# Altium schematic symbol library 08055A500FAT2A.SchLib: 1 symbol
Pins are listed as number, name and electrical type; pins without a type are passive.

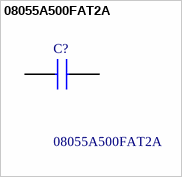
[diagram p0: symbol 08055A500FAT2A]

## 08055A500FAT2A
designator C?
50 pF +/-1% 50V Ceramic Capacitor C0G, NP0 0805 (2012 Metric); Manufacturer_Name: Kyocera AVX; Geometry.Height: 1.4mm; Manufacturer_Part_Number: 08055A500FAT2A; Mouser Part Number: 581-08055A500FAT2A; Mouser Price/Stock: https://www.mouser.co.uk/ProductDetail/KYOCERA-AVX/08055A500FAT2A?qs=ykEKLGTiBczMLr9%2FFQxHGw%3D%3D; Arrow Part Number: 08055A500FAT2A; Arrow Price/Stock: null?region=nac; Datasheet Link: https://datasheets.kyocera-avx.com/C0GNP0-Dielectric.pdf
footprint CAPC2012X140N
pins: 1, 2